# Altium footprint library SIM7600GHR2.PcbLib: 1 footprints
Each footprint in its own frame and in the unit in brackets; x right, y up, seen from the top. Pads: shape width x height; smd on the part's side, far side on the other; paste and mask are expansions set on the pad; w line width, h text height; cw(c..) or ccw(c..) is an arc to the next point about the centre after c.
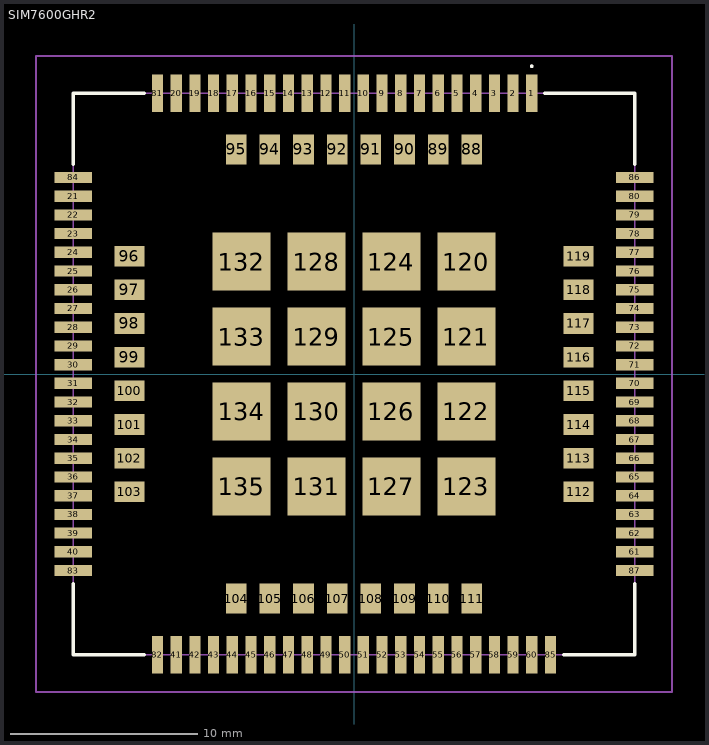
[diagram p0: the footprint, top view; thin cyan lines are the x and y axes]

## SIM7600GHR2 [mm]
pads (135):
  rect 0.6x2 smd: 1(9.5,15) 2(8.5,15) 3(7.5,15) 4(6.5,15) 5(5.5,15) 6(4.5,15) 7(3.5,15) 8(2.5,15) 9(1.5,15) 10(0.5,15) 11(-0.5,15) 12(-1.5,15) 13(-2.5,15) 14(-3.5,15) 15(-4.5,15) 16(-5.5,15) 17(-6.5,15) 18(-7.5,15) 19(-8.5,15) 20(-9.5,15) 41(-9.5,-15) 42(-8.5,-15) 43(-7.5,-15) 44(-6.5,-15) 45(-5.5,-15) 46(-4.5,-15) 47(-3.5,-15) 48(-2.5,-15) 49(-1.5,-15) 50(-0.5,-15) 51(0.5,-15) 52(1.5,-15) 53(2.5,-15) 54(3.5,-15) 55(4.5,-15) 56(5.5,-15) 57(6.5,-15) 58(7.5,-15) 59(8.5,-15) 60(9.5,-15) 81(-10.5,15) 82(-10.5,-15) 85(10.5,-15)
  rect 2x0.6 smd: 21(-15,9.5) 22(-15,8.5) 23(-15,7.5) 24(-15,6.5) 25(-15,5.5) 26(-15,4.5) 27(-15,3.5) 28(-15,2.5) 29(-15,1.5) 30(-15,0.5) 31(-15,-0.5) 32(-15,-1.5) 33(-15,-2.5) 34(-15,-3.5) 35(-15,-4.5) 36(-15,-5.5) 37(-15,-6.5) 38(-15,-7.5) 39(-15,-8.5) 40(-15,-9.5) 61(15,-9.5) 62(15,-8.5) 63(15,-7.5) 64(15,-6.5) 65(15,-5.5) 66(15,-4.5) 67(15,-3.5) 68(15,-2.5) 69(15,-1.5) 70(15,-0.5) 71(15,0.5) 72(15,1.5) 73(15,2.5) 74(15,3.5) 75(15,4.5) 76(15,5.5) 77(15,6.5) 78(15,7.5) 79(15,8.5) 80(15,9.5) 83(-15,-10.5) 84(-15,10.5) 86(15,10.5) 87(15,-10.5)
  rect 1.1x1.6 smd: 88(6.3,12) 89(4.5,12) 90(2.7,12) 91(0.9,12) 92(-0.9,12) 93(-2.7,12) 94(-4.5,12) 95(-6.3,12) 104(-6.3,-12) 105(-4.5,-12) 106(-2.7,-12) 107(-0.9,-12) 108(0.9,-12) 109(2.7,-12) 110(4.5,-12) 111(6.3,-12)
  rect 1.6x1.1 smd: 96(-12,6.3) 97(-12,4.5) 98(-12,2.7) 99(-12,0.9) 100(-12,-0.9) 101(-12,-2.7) 102(-12,-4.5) 103(-12,-6.3) 112(12,-6.3) 113(12,-4.5) 114(12,-2.7) 115(12,-0.9) 116(12,0.9) 117(12,2.7) 118(12,4.5) 119(12,6.3)
  rect 3.1x3.1 smd: 120(6,6) 121(6,2) 122(6,-2) 123(6,-6) 124(2,6) 125(2,2) 126(2,-2) 127(2,-6) 128(-2,6) 129(-2,2) 130(-2,-2) 131(-2,-6) 132(-6,6) 133(-6,2) 134(-6,-2) 135(-6,-6)
Top Overlay:
  lines w0.1: 9.5,16.4 ccw(c9.5,16.45) 9.5,16.5 ccw(c9.5,16.45) 9.5,16.4
  lines w0.2: -15,-11.2 -15,-15 -11.2,-15 ; -15,11.2 -15,15 -11.2,15 ; 10.2,15 15,15 15,11.2 ; 11.2,-15 15,-15 15,-11.2
Mechanical 15:
  lines w0.1: -15,-15 -15,15 15,15 15,-15 -15,-15
Mechanical 20:
  lines w0.1: -17,-17 -17,17 17,17 17,-17 -17,-17
3D body "SIM7600G--3DModel-STEP-56544 (1).STEP": height 3.11, standoff 0.01, extent -15,-15 15,15